# EAGLE library part BCMI-UTILITY_MKRBOARD (library MKRMotorCarrierV3.0)
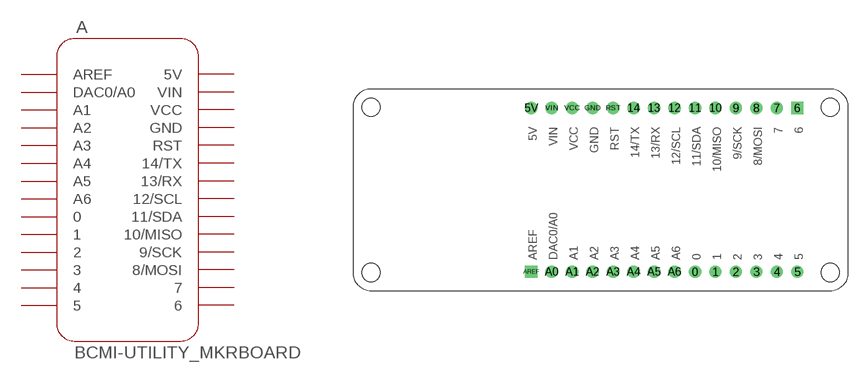
[diagram p2: symbol with the pads of BCMI-UTILITY_MKRBOARD; footprint BCMI-UTILITY_MKRBOARD]

Designator prefix A

## BCMI-UTILITY_MKRBOARDOUTLINE (DATASHEET: DNP; DISTRIBUTOR-LINK: DNP; DISTRIBUTOR-PN: DNP; MANUFACTURER: DNP; MANUFACTURER-PN: DNP; VALUE: DNP)  [BCMI-UTILITY_MKRBOARD]
0  0
1  1
2  2
3  3
4  4
5  5
5V  5V
6  6
7  7
8  8/MOSI
9  9/SCK
10  10/MISO
11  11/SDA
12  12/SCL
13  13/RX
14  14/TX
A0  DAC0/A0
A1  A1
A2  A2
A3  A3
A4  A4
A5  A5
A6  A6
AREF  AREF
GND  GND
RST  RST
VCC  VCC
VIN  VIN

## Footprint BCMI-UTILITY_MKRBOARD (pad centres in mm)
drill 0.8 pad 1.524: 0 42.455,2.34; 1 44.995,2.34; 2 47.535,2.34; 3 50.075,2.34; 4 52.615,2.34; 5 55.155,2.34; 5V 22.135,22.66; 7 52.615,22.66; 8 50.075,22.66; 9 47.535,22.66; 10 44.995,22.66; 11 42.455,22.66; 12 39.915,22.66; 13 37.375,22.66; 14 34.835,22.66; A0 24.675,2.34; A1 27.215,2.34; A2 29.755,2.34; A3 32.295,2.34; A4 34.835,2.34; A5 37.375,2.34; A6 39.915,2.34; GND 29.755,22.66; RST 32.295,22.66; VCC 27.215,22.66; VIN 24.675,22.66
drill 0.8 pad 1.524 square: 6 55.155,22.66; AREF 22.135,2.34
hole 2.25 at 59.25,2.25
hole 2.25 at 59.25,22.75
hole 2.25 at 2.25,2.25
hole 2.25 at 2.25,22.75